# EAGLE library part T6963C (library toshiba)
DOT MATRIX LCD CONTROL LSI Source: LCD Microcontroller Datasheet - Toshiba T6963C.pdf
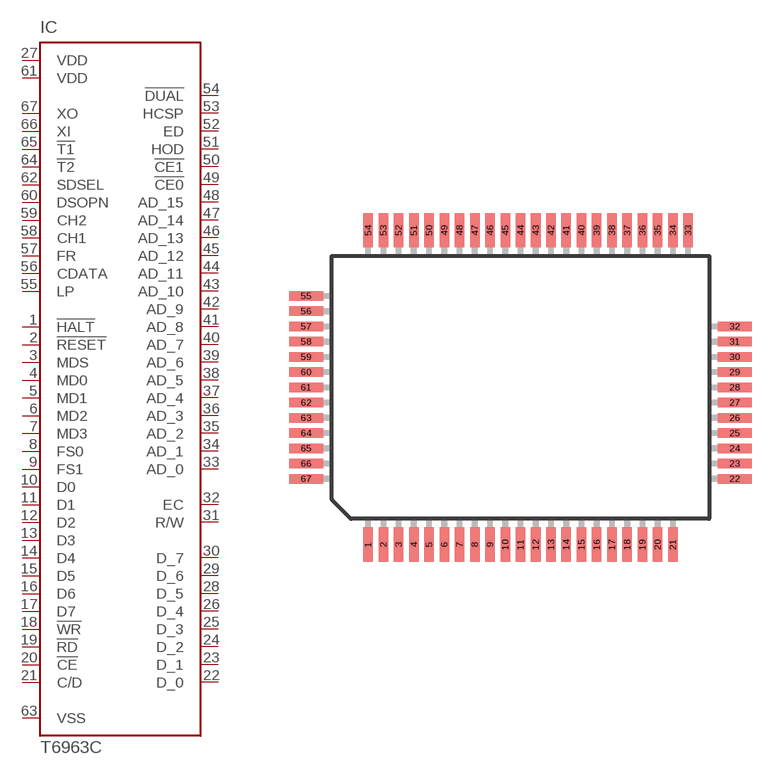
[diagram p1: symbol with the pads of QFP67-P-1420-0.80; footprint QFP67-P-1420-0.80]

Designator prefix IC

## T6963C (OC_FARNELL: unknown; OC_NEWARK: unknown)  [QFP67-P-1420-0.80]
1  !HALT  in
2  !RESET  in
3  MDS  in
4  MD0  in
5  MD1  in
6  MD2  in
7  MD3  in
8  FS0  in
9  FS1  in
10  D0  in
11  D1  in
12  D2  in
13  D3  in
14  D4  in
15  D5  in
16  D6  in
17  D7  in
18  !WR  in
19  !RD  in
20  !CE  in
21  C/D  in
22  D_0  in
23  D_1  in
24  D_2  in
25  D_3  in
26  D_4  in
27  VDD  out
28  D_5  in
29  D_6  in
30  D_7  in
31  R/W  in
32  EC  in
33  AD_0  in
34  AD_1  in
35  AD_2  in
36  AD_3  in
37  AD_4  in
38  AD_5  in
39  AD_6  in
40  AD_7  in
41  AD_8  in
42  AD_9  in
43  AD_10  in
44  AD_11  in
45  AD_12  in
46  AD_13  in
47  AD_14  in
48  AD_15  in
49  !CE0  in
50  !CE1  in
51  HOD  in
52  ED  in
53  HCSP  in
54  !DUAL  in
55  LP  in
56  CDATA  in
57  FR  in
58  CH1  in
59  CH2  in
60  DSOPN  in
61  VDD  out
62  SDSEL  in
63  VSS  out
64  !T2  in
65  !T1  in
66  XI  in
67  XO  out

## Footprint QFP67-P-1420-0.80 (pad centres in mm)
QFP76-P-1420-0.80 Source: LCD Microcontroller Datasheet - Toshiba T6963C.pdf
smd 0.5 x 1.8: 1 -8,-8.25; 2 -7.2,-8.25; 3 -6.4,-8.25; 4 -5.6,-8.25; 5 -4.8,-8.25; 6 -4,-8.25; 7 -3.2,-8.25; 8 -2.4,-8.25; 9 -1.6,-8.25; 10 -0.8,-8.25; 11 0,-8.25; 12 0.8,-8.25; 13 1.6,-8.25; 14 2.4,-8.25; 15 3.2,-8.25; 16 4,-8.25; 17 4.8,-8.25; 18 5.6,-8.25; 19 6.4,-8.25; 20 7.2,-8.25; 21 8,-8.25; 33 8.8,8.25; 34 8,8.25; 35 7.2,8.25; 36 6.4,8.25; 37 5.6,8.25; 38 4.8,8.25; 39 4,8.25; 40 3.2,8.25; 41 2.4,8.25; 42 1.6,8.25; 43 0.8,8.25; 44 0,8.25; 45 -0.8,8.25; 46 -1.6,8.25; 47 -2.4,8.25; 48 -3.2,8.25; 49 -4,8.25; 50 -4.8,8.25; 51 -5.6,8.25; 52 -6.4,8.25; 53 -7.2,8.25; 54 -8,8.25
smd 1.8 x 0.5: 22 11.25,-4.8; 23 11.25,-4; 24 11.25,-3.2; 25 11.25,-2.4; 26 11.25,-1.6; 27 11.25,-0.8; 28 11.25,0; 29 11.25,0.8; 30 11.25,1.6; 31 11.25,2.4; 32 11.25,3.2; 55 -11.25,4.8; 56 -11.25,4; 57 -11.25,3.2; 58 -11.25,2.4; 59 -11.25,1.6; 60 -11.25,0.8; 61 -11.25,0; 62 -11.25,-0.8; 63 -11.25,-1.6; 64 -11.25,-2.4; 65 -11.25,-3.2; 66 -11.25,-4; 67 -11.25,-4.8